# Altium footprint library XTAL.PcbLib: 2 footprints
Each footprint in its own frame and in the unit in brackets; x right, y up, seen from the top. Pads: shape width x height; smd on the part's side, far side on the other; paste and mask are expansions set on the pad; w line width, h text height; cw(c..) or ccw(c..) is an arc to the next point about the centre after c.
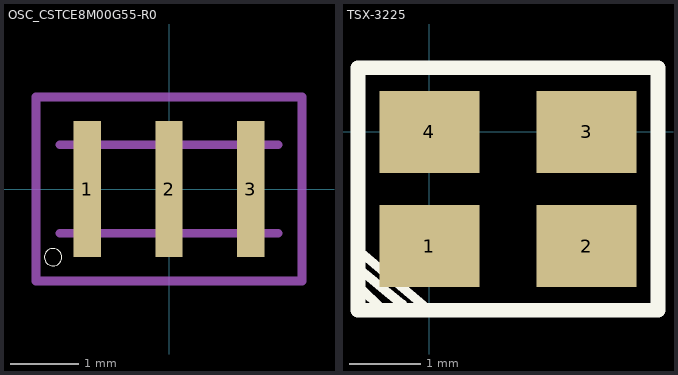
[diagram p0: the footprints below, top view; thin cyan lines are the x and y axes]

## OSC_CSTCE8M00G55-R0 [mm]
pads (3):
  rect 0.4x2 smd: 1(-1.2,0) 2(0,0) 3(1.2,0)
Top Overlay:
  circle w0: c-1.7,-1 r0.127
Mechanical 1:
  lines w0.127: -1.6,-0.65 1.6,-0.65 ; -1.6,0.65 1.6,0.65 ; -1.95,-1.35 -1.95,1.35 1.95,1.35 1.95,-1.35 -1.95,-1.35

## TSX-3225 [mm]
pads (4):
  rect 1.4x1.15 smd: 1(0,-1.6) 2(2.2,-1.6) 3(2.2,0) 4(0,0)
Top Overlay:
  lines w0.127: -1,-2.159 -0.635,-2.5 ; -1,-1.905 -0.381,-2.413 ; -1,-1.651 0,-2.5
  lines w0.203: -1,-2.5 3.2,-2.5 3.2,0.9 -1,0.9 -1,-2.5
3D body "3225 SMD Crystal Oscillator.x_b": height 0.65, standoff -0.05, extent -0.457,-2.012 2.743,0.488